# Altium integrated library Resistor - Current Sense.IntLib: 810 symbols (part 7 of 12)
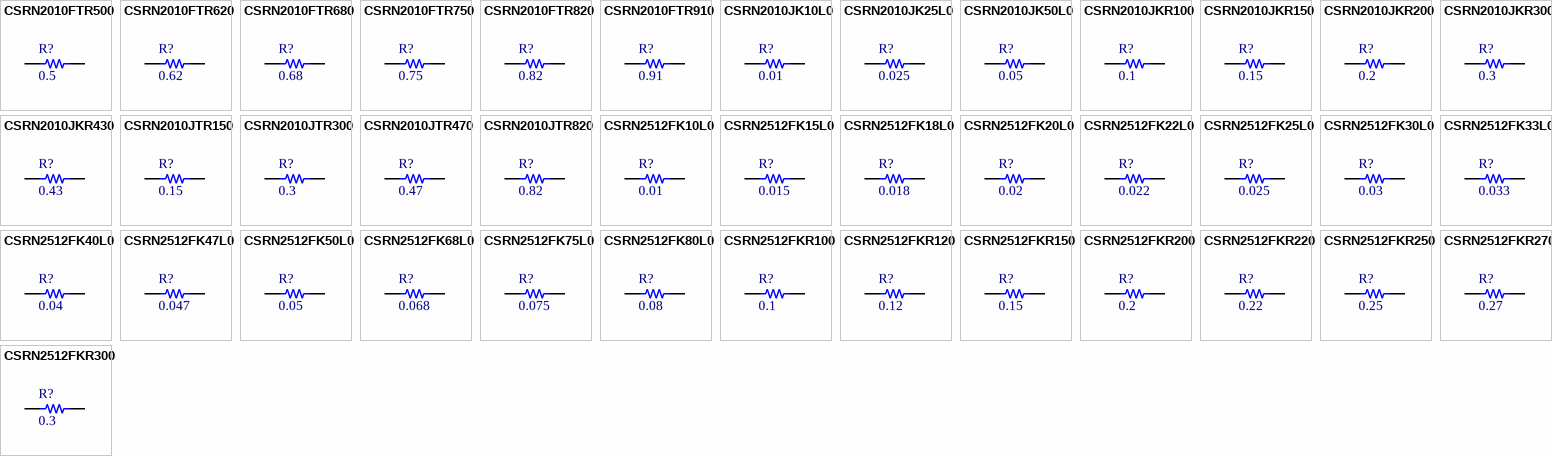
[diagram p26: symbols CSRN2010FTR500 to CSRN2512FKR300]

## CSRN2512FK50L0
designator R?, comment 0.05
RES SMD 0.05 OHM 1% 2W 2512; Part Number: CSRN2512FK50L0; Manufacturer: Stackpole Electronics Inc.; TemperatureRange: -55C ~ 155C; TemperatureCoefficient: 200ppm/C; Value: 0.05; PartId: 10173; Supplier 1: Digi-Key; Supplier Part Number 1: CSRN2512FK50L0TR-ND; ComponentLink1Description: Datasheet; ComponentLink1URL: http://www.seielect.com/catalog/SEI-CSR_CSRN.pdf; ComponentLink2Description: Digi-Key Listing; ComponentLink2URL: https://www.digikey.com/product-detail/en/stackpole-electronics-inc/CSRN2512FK50L0/CSRN2512FK50L0TR-ND/1646108; Tolerance: 1%; PowerRating: 2W; Price: 0.1388; Device Package: 2512 (6432 Metric)
footprint STACKPOLE CSRN2512
pins: 1, 2

## CSRN2512FK68L0
designator R?, comment 0.068
RES SMD 0.068 OHM 1% 2W 2512; Part Number: CSRN2512FK68L0; Manufacturer: Stackpole Electronics Inc.; TemperatureRange: -55C ~ 155C; TemperatureCoefficient: 200ppm/C; Value: 0.068; PartId: 10180; Supplier 1: Digi-Key; Supplier Part Number 1: CSRN2512FK68L0TR-ND; ComponentLink1Description: Datasheet; ComponentLink1URL: http://www.seielect.com/catalog/SEI-CSR_CSRN.pdf; ComponentLink2Description: Digi-Key Listing; ComponentLink2URL: https://www.digikey.com/product-detail/en/stackpole-electronics-inc/CSRN2512FK68L0/CSRN2512FK68L0TR-ND/1742736; Tolerance: 1%; PowerRating: 2W; Price: 0.1388; Device Package: 2512 (6432 Metric)
footprint STACKPOLE CSRN2512
pins: 1, 2

## CSRN2512FK75L0
designator R?, comment 0.075
RES SMD 0.075 OHM 1% 2W 2512; Part Number: CSRN2512FK75L0; Manufacturer: Stackpole Electronics Inc.; TemperatureRange: -55C ~ 155C; TemperatureCoefficient: 200ppm/C; Value: 0.075; PartId: 10182; Supplier 1: Digi-Key; Supplier Part Number 1: CSRN2512FK75L0TR-ND; ComponentLink1Description: Datasheet; ComponentLink1URL: http://www.seielect.com/catalog/SEI-CSR_CSRN.pdf; ComponentLink2Description: Digi-Key Listing; ComponentLink2URL: https://www.digikey.com/product-detail/en/stackpole-electronics-inc/CSRN2512FK75L0/CSRN2512FK75L0TR-ND/1646109; Tolerance: 1%; PowerRating: 2W; Price: 0.1388; Device Package: 2512 (6432 Metric)
footprint STACKPOLE CSRN2512
pins: 1, 2

## CSRN2512FK80L0
designator R?, comment 0.08
RES SMD 0.08 OHM 1% 2W 2512; Part Number: CSRN2512FK80L0; Manufacturer: Stackpole Electronics Inc.; TemperatureRange: -55C ~ 155C; TemperatureCoefficient: 200ppm/C; Value: 0.08; PartId: 10223; Supplier 1: Digi-Key; Supplier Part Number 1: CSRN2512FK80L0-ND; ComponentLink1Description: Datasheet; ComponentLink1URL: http://www.seielect.com/catalog/SEI-CSR_CSRN.pdf; ComponentLink2Description: Digi-Key Listing; ComponentLink2URL: https://www.digikey.com/product-detail/en/stackpole-electronics-inc/CSRN2512FK80L0/CSRN2512FK80L0-ND/1742739; Tolerance: 1%; PowerRating: 2W; Price: 0.1388; Device Package: 2512 (6432 Metric)
footprint STACKPOLE CSRN2512
pins: 1, 2

## CSRN2512FKR100
designator R?, comment 0.1
RES SMD 0.1 OHM 1% 2W 2512; Part Number: CSRN2512FKR100; Manufacturer: Stackpole Electronics Inc.; TemperatureRange: -55C ~ 155C; TemperatureCoefficient: 200ppm/C; Value: 0.1; PartId: 10172; Supplier 1: Digi-Key; Supplier Part Number 1: CSRN2512FKR100TR-ND; ComponentLink1Description: Datasheet; ComponentLink1URL: http://www.seielect.com/catalog/SEI-CSR_CSRN.pdf; ComponentLink2Description: Digi-Key Listing; ComponentLink2URL: https://www.digikey.com/product-detail/en/stackpole-electronics-inc/CSRN2512FKR100/CSRN2512FKR100TR-ND/1646110; Tolerance: 1%; PowerRating: 2W; Price: 0.126; Device Package: 2512 (6432 Metric)
footprint STACKPOLE CSRN2512
pins: 1, 2

## CSRN2512FKR120
designator R?, comment 0.12
RES SMD 0.12 OHM 1% 2W 2512; Part Number: CSRN2512FKR120; Manufacturer: Stackpole Electronics Inc.; TemperatureRange: -55C ~ 155C; TemperatureCoefficient: 200ppm/C; Value: 0.12; PartId: 10213; Supplier 1: Digi-Key; Supplier Part Number 1: CSRN2512FKR120-ND; ComponentLink1Description: Datasheet; ComponentLink1URL: http://www.seielect.com/catalog/SEI-CSR_CSRN.pdf; ComponentLink2Description: Digi-Key Listing; ComponentLink2URL: https://www.digikey.com/product-detail/en/stackpole-electronics-inc/CSRN2512FKR120/CSRN2512FKR120-ND/1742742; Tolerance: 1%; PowerRating: 2W; Price: 0.126; Device Package: 2512 (6432 Metric)
footprint STACKPOLE CSRN2512
pins: 1, 2

## CSRN2512FKR150
designator R?, comment 0.15
RES SMD 0.15 OHM 1% 2W 2512; Part Number: CSRN2512FKR150; Manufacturer: Stackpole Electronics Inc.; TemperatureRange: -55C ~ 155C; TemperatureCoefficient: 200ppm/C; Value: 0.15; PartId: 10167; Supplier 1: Digi-Key; Supplier Part Number 1: CSRN2512FKR150TR-ND; ComponentLink1Description: Datasheet; ComponentLink1URL: http://www.seielect.com/catalog/SEI-CSR_CSRN.pdf; ComponentLink2Description: Digi-Key Listing; ComponentLink2URL: https://www.digikey.com/product-detail/en/stackpole-electronics-inc/CSRN2512FKR150/CSRN2512FKR150TR-ND/1788109; Tolerance: 1%; PowerRating: 2W; Price: 0.126; Device Package: 2512 (6432 Metric)
footprint STACKPOLE CSRN2512
pins: 1, 2

## CSRN2512FKR200
designator R?, comment 0.2
RES SMD 0.2 OHM 1% 2W 2512; Part Number: CSRN2512FKR200; Manufacturer: Stackpole Electronics Inc.; TemperatureRange: -55C ~ 155C; TemperatureCoefficient: 200ppm/C; Value: 0.2; PartId: 10168; Supplier 1: Digi-Key; Supplier Part Number 1: CSRN2512FKR200TR-ND; ComponentLink1Description: Datasheet; ComponentLink1URL: http://www.seielect.com/catalog/SEI-CSR_CSRN.pdf; ComponentLink2Description: Digi-Key Listing; ComponentLink2URL: https://www.digikey.com/product-detail/en/stackpole-electronics-inc/CSRN2512FKR200/CSRN2512FKR200TR-ND/1742748; Tolerance: 1%; PowerRating: 2W; Price: 0.126; Device Package: 2512 (6432 Metric)
footprint STACKPOLE CSRN2512
pins: 1, 2

## CSRN2512FKR220
designator R?, comment 0.22
RES SMD 0.22 OHM 1% 2W 2512; Part Number: CSRN2512FKR220; Manufacturer: Stackpole Electronics Inc.; TemperatureRange: -55C ~ 155C; TemperatureCoefficient: 200ppm/C; Value: 0.22; PartId: 10214; Supplier 1: Digi-Key; Supplier Part Number 1: CSRN2512FKR220-ND; ComponentLink1Description: Datasheet; ComponentLink1URL: http://www.seielect.com/catalog/SEI-CSR_CSRN.pdf; ComponentLink2Description: Digi-Key Listing; ComponentLink2URL: https://www.digikey.com/product-detail/en/stackpole-electronics-inc/CSRN2512FKR220/CSRN2512FKR220-ND/1742750; Tolerance: 1%; PowerRating: 2W; Price: 0.126; Device Package: 2512 (6432 Metric)
footprint STACKPOLE CSRN2512
pins: 1, 2

## CSRN2512FKR250
designator R?, comment 0.25
RES SMD 0.25 OHM 1% 2W 2512; Part Number: CSRN2512FKR250; Manufacturer: Stackpole Electronics Inc.; TemperatureRange: -55C ~ 155C; TemperatureCoefficient: 200ppm/C; Value: 0.25; PartId: 10166; Supplier 1: Digi-Key; Supplier Part Number 1: CSRN2512FKR250TR-ND; ComponentLink1Description: Datasheet; ComponentLink1URL: http://www.seielect.com/catalog/SEI-CSR_CSRN.pdf; ComponentLink2Description: Digi-Key Listing; ComponentLink2URL: https://www.digikey.com/product-detail/en/stackpole-electronics-inc/CSRN2512FKR250/CSRN2512FKR250TR-ND/1788110; Tolerance: 1%; PowerRating: 2W; Price: 0.126; Device Package: 2512 (6432 Metric)
footprint STACKPOLE CSRN2512
pins: 1, 2

## CSRN2512FKR270
designator R?, comment 0.27
RES SMD 0.27 OHM 1% 2W 2512; Part Number: CSRN2512FKR270; Manufacturer: Stackpole Electronics Inc.; TemperatureRange: -55C ~ 155C; TemperatureCoefficient: 200ppm/C; Value: 0.27; PartId: 10215; Supplier 1: Digi-Key; Supplier Part Number 1: CSRN2512FKR270-ND; ComponentLink1Description: Datasheet; ComponentLink1URL: http://www.seielect.com/catalog/SEI-CSR_CSRN.pdf; ComponentLink2Description: Digi-Key Listing; ComponentLink2URL: https://www.digikey.com/product-detail/en/stackpole-electronics-inc/CSRN2512FKR270/CSRN2512FKR270-ND/1742752; Tolerance: 1%; PowerRating: 2W; Price: 0.126; Device Package: 2512 (6432 Metric)
footprint STACKPOLE CSRN2512
pins: 1, 2

## CSRN2512FKR300
designator R?, comment 0.3
RES SMD 0.3 OHM 1% 2W 2512; Part Number: CSRN2512FKR300; Manufacturer: Stackpole Electronics Inc.; TemperatureRange: -55C ~ 155C; TemperatureCoefficient: 200ppm/C; Value: 0.3; PartId: 10169; Supplier 1: Digi-Key; Supplier Part Number 1: CSRN2512FKR300TR-ND; ComponentLink1Description: Datasheet; ComponentLink1URL: http://www.seielect.com/catalog/SEI-CSR_CSRN.pdf; ComponentLink2Description: Digi-Key Listing; ComponentLink2URL: https://www.digikey.com/product-detail/en/stackpole-electronics-inc/CSRN2512FKR300/CSRN2512FKR300TR-ND/1742753; Tolerance: 1%; PowerRating: 2W; Price: 0.126; Device Package: 2512 (6432 Metric)
footprint STACKPOLE CSRN2512
pins: 1, 2

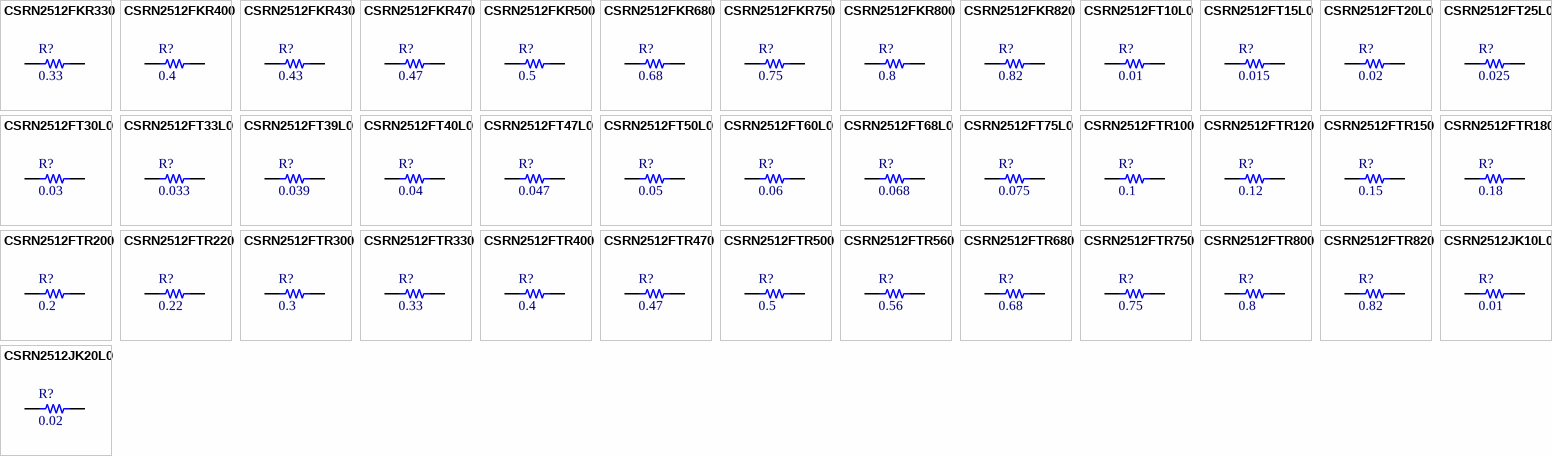
[diagram p11: symbols CSRN2512FKR330 to CSRN2512JK20L0]

## CSRN2512FKR330
designator R?, comment 0.33
RES SMD 0.33 OHM 1% 2W 2512; Part Number: CSRN2512FKR330; Manufacturer: Stackpole Electronics Inc.; TemperatureRange: -55C ~ 155C; TemperatureCoefficient: 200ppm/C; Value: 0.33; PartId: 10171; Supplier 1: Digi-Key; Supplier Part Number 1: CSRN2512FKR330TR-ND; ComponentLink1Description: Datasheet; ComponentLink1URL: http://www.seielect.com/catalog/SEI-CSR_CSRN.pdf; ComponentLink2Description: Digi-Key Listing; ComponentLink2URL: https://www.digikey.com/product-detail/en/stackpole-electronics-inc/CSRN2512FKR330/CSRN2512FKR330TR-ND/1742756; Tolerance: 1%; PowerRating: 2W; Price: 0.126; Device Package: 2512 (6432 Metric)
footprint STACKPOLE CSRN2512
pins: 1, 2

## CSRN2512FKR400
designator R?, comment 0.4
RES SMD 0.4 OHM 1% 2W 2512; Part Number: CSRN2512FKR400; Manufacturer: Stackpole Electronics Inc.; TemperatureRange: -55C ~ 155C; TemperatureCoefficient: 200ppm/C; Value: 0.4; PartId: 10179; Supplier 1: Digi-Key; Supplier Part Number 1: CSRN2512FKR400TR-ND; ComponentLink1Description: Datasheet; ComponentLink1URL: http://www.seielect.com/catalog/SEI-CSR_CSRN.pdf; ComponentLink2Description: Digi-Key Listing; ComponentLink2URL: https://www.digikey.com/product-detail/en/stackpole-electronics-inc/CSRN2512FKR400/CSRN2512FKR400TR-ND/1788111; Tolerance: 1%; PowerRating: 2W; Price: 0.126; Device Package: 2512 (6432 Metric)
footprint STACKPOLE CSRN2512
pins: 1, 2

## CSRN2512FKR430
designator R?, comment 0.43
RES SMD 0.43 OHM 1% 2W 2512; Part Number: CSRN2512FKR430; Manufacturer: Stackpole Electronics Inc.; TemperatureRange: -55C ~ 155C; TemperatureCoefficient: 200ppm/C; Value: 0.43; PartId: 10216; Supplier 1: Digi-Key; Supplier Part Number 1: CSRN2512FKR430-ND; ComponentLink1Description: Datasheet; ComponentLink1URL: http://www.seielect.com/catalog/SEI-CSR_CSRN.pdf; ComponentLink2Description: Digi-Key Listing; ComponentLink2URL: https://www.digikey.com/product-detail/en/stackpole-electronics-inc/CSRN2512FKR430/CSRN2512FKR430-ND/1742763; Tolerance: 1%; PowerRating: 2W; Price: 0.126; Device Package: 2512 (6432 Metric)
footprint STACKPOLE CSRN2512
pins: 1, 2

## CSRN2512FKR470
designator R?, comment 0.47
RES SMD 0.47 OHM 1% 2W 2512; Part Number: CSRN2512FKR470; Manufacturer: Stackpole Electronics Inc.; TemperatureRange: -55C ~ 155C; TemperatureCoefficient: 200ppm/C; Value: 0.47; PartId: 10170; Supplier 1: Digi-Key; Supplier Part Number 1: CSRN2512FKR470TR-ND; ComponentLink1Description: Datasheet; ComponentLink1URL: http://www.seielect.com/catalog/SEI-CSR_CSRN.pdf; ComponentLink2Description: Digi-Key Listing; ComponentLink2URL: https://www.digikey.com/product-detail/en/stackpole-electronics-inc/CSRN2512FKR470/CSRN2512FKR470TR-ND/1788112; Tolerance: 1%; PowerRating: 2W; Price: 0.126; Device Package: 2512 (6432 Metric)
footprint STACKPOLE CSRN2512
pins: 1, 2

## CSRN2512FKR500
designator R?, comment 0.5
RES SMD 0.5 OHM 1% 2W 2512; Part Number: CSRN2512FKR500; Manufacturer: Stackpole Electronics Inc.; TemperatureRange: -55C ~ 155C; TemperatureCoefficient: 200ppm/C; Value: 0.5; PartId: 10163; Supplier 1: Digi-Key; Supplier Part Number 1: CSRN2512FKR500TR-ND; ComponentLink1Description: Datasheet; ComponentLink1URL: http://www.seielect.com/catalog/SEI-CSR_CSRN.pdf; ComponentLink2Description: Digi-Key Listing; ComponentLink2URL: https://www.digikey.com/product-detail/en/stackpole-electronics-inc/CSRN2512FKR500/CSRN2512FKR500TR-ND/1742768; Tolerance: 1%; PowerRating: 2W; Price: 0.088; Device Package: 2512 (6432 Metric)
footprint STACKPOLE CSRN2512
pins: 1, 2

## CSRN2512FKR680
designator R?, comment 0.68
RES SMD 0.68 OHM 1% 2W 2512; Part Number: CSRN2512FKR680; Manufacturer: Stackpole Electronics Inc.; TemperatureRange: -55C ~ 155C; TemperatureCoefficient: 200ppm/C; Value: 0.68; PartId: 10162; Supplier 1: Digi-Key; Supplier Part Number 1: CSRN2512FKR680TR-ND; ComponentLink1Description: Datasheet; ComponentLink1URL: http://www.seielect.com/catalog/SEI-CSR_CSRN.pdf; ComponentLink2Description: Digi-Key Listing; ComponentLink2URL: https://www.digikey.com/product-detail/en/stackpole-electronics-inc/CSRN2512FKR680/CSRN2512FKR680TR-ND/1788113; Tolerance: 1%; PowerRating: 2W; Price: 0.088; Device Package: 2512 (6432 Metric)
footprint STACKPOLE CSRN2512
pins: 1, 2

## CSRN2512FKR750
designator R?, comment 0.75
RES SMD 0.75 OHM 1% 2W 2512; Part Number: CSRN2512FKR750; Manufacturer: Stackpole Electronics Inc.; TemperatureRange: -55C ~ 155C; TemperatureCoefficient: 200ppm/C; Value: 0.75; PartId: 10164; Supplier 1: Digi-Key; Supplier Part Number 1: CSRN2512FKR750TR-ND; ComponentLink1Description: Datasheet; ComponentLink1URL: http://www.seielect.com/catalog/SEI-CSR_CSRN.pdf; ComponentLink2Description: Digi-Key Listing; ComponentLink2URL: https://www.digikey.com/product-detail/en/stackpole-electronics-inc/CSRN2512FKR750/CSRN2512FKR750TR-ND/1788114; Tolerance: 1%; PowerRating: 2W; Price: 0.088; Device Package: 2512 (6432 Metric)
footprint STACKPOLE CSRN2512
pins: 1, 2

## CSRN2512FKR800
designator R?, comment 0.8
RES SMD 0.8 OHM 1% 2W 2512; Part Number: CSRN2512FKR800; Manufacturer: Stackpole Electronics Inc.; TemperatureRange: -55C ~ 155C; TemperatureCoefficient: 200ppm/C; Value: 0.8; PartId: 10189; Supplier 1: Digi-Key; Supplier Part Number 1: CSRN2512FKR800-ND; ComponentLink1Description: Datasheet; ComponentLink1URL: http://www.seielect.com/catalog/SEI-CSR_CSRN.pdf; ComponentLink2Description: Digi-Key Listing; ComponentLink2URL: https://www.digikey.com/product-detail/en/stackpole-electronics-inc/CSRN2512FKR800/CSRN2512FKR800-ND/1742773; Tolerance: 1%; PowerRating: 2W; Price: 0.088; Device Package: 2512 (6432 Metric)
footprint STACKPOLE CSRN2512
pins: 1, 2

## CSRN2512FKR820
designator R?, comment 0.82
RES SMD 0.82 OHM 1% 2W 2512; Part Number: CSRN2512FKR820; Manufacturer: Stackpole Electronics Inc.; TemperatureRange: -55C ~ 155C; TemperatureCoefficient: 200ppm/C; Value: 0.82; PartId: 10190; Supplier 1: Digi-Key; Supplier Part Number 1: CSRN2512FKR820-ND; ComponentLink1Description: Datasheet; ComponentLink1URL: http://www.seielect.com/catalog/SEI-CSR_CSRN.pdf; ComponentLink2Description: Digi-Key Listing; ComponentLink2URL: https://www.digikey.com/product-detail/en/stackpole-electronics-inc/CSRN2512FKR820/CSRN2512FKR820-ND/1742775; Tolerance: 1%; PowerRating: 2W; Price: 0.088; Device Package: 2512 (6432 Metric)
footprint STACKPOLE CSRN2512
pins: 1, 2

## CSRN2512FT10L0
designator R?, comment 0.01
RES SMD 0.01 OHM 1% 2W 2512; Part Number: CSRN2512FT10L0; Manufacturer: Stackpole Electronics Inc.; TemperatureRange: -55C ~ 155C; TemperatureCoefficient: 200ppm/C; Value: 0.01; PartId: 10234; Supplier 1: Digi-Key; Supplier Part Number 1: CSRN2512FT10L0-ND; ComponentLink1Description: Datasheet; ComponentLink1URL: http://www.seielect.com/catalog/SEI-CSR_CSRN.pdf; ComponentLink2Description: Digi-Key Listing; ComponentLink2URL: https://www.digikey.com/product-detail/en/stackpole-electronics-inc/CSRN2512FT10L0/CSRN2512FT10L0-ND/1742711; Tolerance: 1%; PowerRating: 2W; Price: 0.1862; Device Package: 2512 (6432 Metric)
footprint STACKPOLE CSRN2512
pins: 1, 2

## CSRN2512FT15L0
designator R?, comment 0.015
RES SMD 0.015 OHM 1% 2W 2512; Part Number: CSRN2512FT15L0; Manufacturer: Stackpole Electronics Inc.; TemperatureRange: -55C ~ 155C; TemperatureCoefficient: 200ppm/C; Value: 0.015; PartId: 10235; Supplier 1: Digi-Key; Supplier Part Number 1: CSRN2512FT15L0-ND; ComponentLink1Description: Datasheet; ComponentLink1URL: http://www.seielect.com/catalog/SEI-CSR_CSRN.pdf; ComponentLink2Description: Digi-Key Listing; ComponentLink2URL: https://www.digikey.com/product-detail/en/stackpole-electronics-inc/CSRN2512FT15L0/CSRN2512FT15L0-ND/1742715; Tolerance: 1%; PowerRating: 2W; Price: 0.1862; Device Package: 2512 (6432 Metric)
footprint STACKPOLE CSRN2512
pins: 1, 2

## CSRN2512FT20L0
designator R?, comment 0.02
RES SMD 0.02 OHM 1% 2W 2512; Part Number: CSRN2512FT20L0; Manufacturer: Stackpole Electronics Inc.; TemperatureRange: -55C ~ 155C; TemperatureCoefficient: 200ppm/C; Value: 0.02; PartId: 10236; Supplier 1: Digi-Key; Supplier Part Number 1: CSRN2512FT20L0-ND; ComponentLink1Description: Datasheet; ComponentLink1URL: http://www.seielect.com/catalog/SEI-CSR_CSRN.pdf; ComponentLink2Description: Digi-Key Listing; ComponentLink2URL: https://www.digikey.com/product-detail/en/stackpole-electronics-inc/CSRN2512FT20L0/CSRN2512FT20L0-ND/1742719; Tolerance: 1%; PowerRating: 2W; Price: 0.1862; Device Package: 2512 (6432 Metric)
footprint STACKPOLE CSRN2512
pins: 1, 2

## CSRN2512FT25L0
designator R?, comment 0.025
RES SMD 0.025 OHM 1% 2W 2512; Part Number: CSRN2512FT25L0; Manufacturer: Stackpole Electronics Inc.; TemperatureRange: -55C ~ 155C; TemperatureCoefficient: 200ppm/C; Value: 0.025; PartId: 10224; Supplier 1: Digi-Key; Supplier Part Number 1: CSRN2512FT25L0-ND; ComponentLink1Description: Datasheet; ComponentLink1URL: http://www.seielect.com/catalog/SEI-CSR_CSRN.pdf; ComponentLink2Description: Digi-Key Listing; ComponentLink2URL: https://www.digikey.com/product-detail/en/stackpole-electronics-inc/CSRN2512FT25L0/CSRN2512FT25L0-ND/1742722; Tolerance: 1%; PowerRating: 2W; Price: 0.1474; Device Package: 2512 (6432 Metric)
footprint STACKPOLE CSRN2512
pins: 1, 2

## CSRN2512FT30L0
designator R?, comment 0.03
RES SMD 0.03 OHM 1% 2W 2512; Part Number: CSRN2512FT30L0; Manufacturer: Stackpole Electronics Inc.; TemperatureRange: -55C ~ 155C; TemperatureCoefficient: 200ppm/C; Value: 0.03; PartId: 10225; Supplier 1: Digi-Key; Supplier Part Number 1: CSRN2512FT30L0-ND; ComponentLink1Description: Datasheet; ComponentLink1URL: http://www.seielect.com/catalog/SEI-CSR_CSRN.pdf; ComponentLink2Description: Digi-Key Listing; ComponentLink2URL: https://www.digikey.com/product-detail/en/stackpole-electronics-inc/CSRN2512FT30L0/CSRN2512FT30L0-ND/1742723; Tolerance: 1%; PowerRating: 2W; Price: 0.1474; Device Package: 2512 (6432 Metric)
footprint STACKPOLE CSRN2512
pins: 1, 2

## CSRN2512FT33L0
designator R?, comment 0.033
RES SMD 0.033 OHM 1% 2W 2512; Part Number: CSRN2512FT33L0; Manufacturer: Stackpole Electronics Inc.; TemperatureRange: -55C ~ 155C; TemperatureCoefficient: 200ppm/C; Value: 0.033; PartId: 10226; Supplier 1: Digi-Key; Supplier Part Number 1: CSRN2512FT33L0-ND; ComponentLink1Description: Datasheet; ComponentLink1URL: http://www.seielect.com/catalog/SEI-CSR_CSRN.pdf; ComponentLink2Description: Digi-Key Listing; ComponentLink2URL: https://www.digikey.com/product-detail/en/stackpole-electronics-inc/CSRN2512FT33L0/CSRN2512FT33L0-ND/1742725; Tolerance: 1%; PowerRating: 2W; Price: 0.1474; Device Package: 2512 (6432 Metric)
footprint STACKPOLE CSRN2512
pins: 1, 2

## CSRN2512FT39L0
designator R?, comment 0.039
RES SMD 0.039 OHM 1% 2W 2512; Part Number: CSRN2512FT39L0; Manufacturer: Stackpole Electronics Inc.; TemperatureRange: -55C ~ 155C; TemperatureCoefficient: 200ppm/C; Value: 0.039; PartId: 10227; Supplier 1: Digi-Key; Supplier Part Number 1: CSRN2512FT39L0-ND; ComponentLink1Description: Datasheet; ComponentLink1URL: http://www.seielect.com/catalog/SEI-CSR_CSRN.pdf; ComponentLink2Description: Digi-Key Listing; ComponentLink2URL: https://www.digikey.com/product-detail/en/stackpole-electronics-inc/CSRN2512FT39L0/CSRN2512FT39L0-ND/1742727; Tolerance: 1%; PowerRating: 2W; Price: 0.1474; Device Package: 2512 (6432 Metric)
footprint STACKPOLE CSRN2512
pins: 1, 2

## CSRN2512FT40L0
designator R?, comment 0.04
RES SMD 0.04 OHM 1% 2W 2512; Part Number: CSRN2512FT40L0; Manufacturer: Stackpole Electronics Inc.; TemperatureRange: -55C ~ 155C; TemperatureCoefficient: 200ppm/C; Value: 0.04; PartId: 10228; Supplier 1: Digi-Key; Supplier Part Number 1: CSRN2512FT40L0-ND; ComponentLink1Description: Datasheet; ComponentLink1URL: http://www.seielect.com/catalog/SEI-CSR_CSRN.pdf; ComponentLink2Description: Digi-Key Listing; ComponentLink2URL: https://www.digikey.com/product-detail/en/stackpole-electronics-inc/CSRN2512FT40L0/CSRN2512FT40L0-ND/1742729; Tolerance: 1%; PowerRating: 2W; Price: 0.1474; Device Package: 2512 (6432 Metric)
footprint STACKPOLE CSRN2512
pins: 1, 2

## CSRN2512FT47L0
designator R?, comment 0.047
RES SMD 0.047 OHM 1% 2W 2512; Part Number: CSRN2512FT47L0; Manufacturer: Stackpole Electronics Inc.; TemperatureRange: -55C ~ 155C; TemperatureCoefficient: 200ppm/C; Value: 0.047; PartId: 10229; Supplier 1: Digi-Key; Supplier Part Number 1: CSRN2512FT47L0-ND; ComponentLink1Description: Datasheet; ComponentLink1URL: http://www.seielect.com/catalog/SEI-CSR_CSRN.pdf; ComponentLink2Description: Digi-Key Listing; ComponentLink2URL: https://www.digikey.com/product-detail/en/stackpole-electronics-inc/CSRN2512FT47L0/CSRN2512FT47L0-ND/1742732; Tolerance: 1%; PowerRating: 2W; Price: 0.1474; Device Package: 2512 (6432 Metric)
footprint STACKPOLE CSRN2512
pins: 1, 2

## CSRN2512FT50L0
designator R?, comment 0.05
RES SMD 0.05 OHM 1% 2W 2512; Part Number: CSRN2512FT50L0; Manufacturer: Stackpole Electronics Inc.; TemperatureRange: -55C ~ 155C; TemperatureCoefficient: 200ppm/C; Value: 0.05; PartId: 10230; Supplier 1: Digi-Key; Supplier Part Number 1: CSRN2512FT50L0-ND; ComponentLink1Description: Datasheet; ComponentLink1URL: http://www.seielect.com/catalog/SEI-CSR_CSRN.pdf; ComponentLink2Description: Digi-Key Listing; ComponentLink2URL: https://www.digikey.com/product-detail/en/stackpole-electronics-inc/CSRN2512FT50L0/CSRN2512FT50L0-ND/1742733; Tolerance: 1%; PowerRating: 2W; Price: 0.1474; Device Package: 2512 (6432 Metric)
footprint STACKPOLE CSRN2512
pins: 1, 2

## CSRN2512FT60L0
designator R?, comment 0.06
RES SMD 0.06 OHM 1% 2W 2512; Part Number: CSRN2512FT60L0; Manufacturer: Stackpole Electronics Inc.; TemperatureRange: -55C ~ 155C; TemperatureCoefficient: 200ppm/C; Value: 0.06; PartId: 10218; Supplier 1: Digi-Key; Supplier Part Number 1: CSRN2512FT60L0-ND; ComponentLink1Description: Datasheet; ComponentLink1URL: http://www.seielect.com/catalog/SEI-CSR_CSRN.pdf; ComponentLink2Description: Digi-Key Listing; ComponentLink2URL: https://www.digikey.com/product-detail/en/stackpole-electronics-inc/CSRN2512FT60L0/CSRN2512FT60L0-ND/1742735; Tolerance: 1%; PowerRating: 2W; Price: 0.134; Device Package: 2512 (6432 Metric)
footprint STACKPOLE CSRN2512
pins: 1, 2

## CSRN2512FT68L0
designator R?, comment 0.068
RES SMD 0.068 OHM 1% 2W 2512; Part Number: CSRN2512FT68L0; Manufacturer: Stackpole Electronics Inc.; TemperatureRange: -55C ~ 155C; TemperatureCoefficient: 200ppm/C; Value: 0.068; PartId: 10219; Supplier 1: Digi-Key; Supplier Part Number 1: CSRN2512FT68L0-ND; ComponentLink1Description: Datasheet; ComponentLink1URL: http://www.seielect.com/catalog/SEI-CSR_CSRN.pdf; ComponentLink2Description: Digi-Key Listing; ComponentLink2URL: https://www.digikey.com/product-detail/en/stackpole-electronics-inc/CSRN2512FT68L0/CSRN2512FT68L0-ND/1742737; Tolerance: 1%; PowerRating: 2W; Price: 0.134; Device Package: 2512 (6432 Metric)
footprint STACKPOLE CSRN2512
pins: 1, 2

## CSRN2512FT75L0
designator R?, comment 0.075
RES SMD 0.075 OHM 1% 2W 2512; Part Number: CSRN2512FT75L0; Manufacturer: Stackpole Electronics Inc.; TemperatureRange: -55C ~ 155C; TemperatureCoefficient: 200ppm/C; Value: 0.075; PartId: 10220; Supplier 1: Digi-Key; Supplier Part Number 1: CSRN2512FT75L0-ND; ComponentLink1Description: Datasheet; ComponentLink1URL: http://www.seielect.com/catalog/SEI-CSR_CSRN.pdf; ComponentLink2Description: Digi-Key Listing; ComponentLink2URL: https://www.digikey.com/product-detail/en/stackpole-electronics-inc/CSRN2512FT75L0/CSRN2512FT75L0-ND/1742738; Tolerance: 1%; PowerRating: 2W; Price: 0.134; Device Package: 2512 (6432 Metric)
footprint STACKPOLE CSRN2512
pins: 1, 2

## CSRN2512FTR100
designator R?, comment 0.1
RES SMD 0.1 OHM 1% 2W 2512; Part Number: CSRN2512FTR100; Manufacturer: Stackpole Electronics Inc.; TemperatureRange: -55C ~ 155C; TemperatureCoefficient: 200ppm/C; Value: 0.1; PartId: 10165; Supplier 1: Digi-Key; Supplier Part Number 1: CSRN2512FTR100TR-ND; ComponentLink1Description: Datasheet; ComponentLink1URL: http://www.seielect.com/catalog/SEI-CSR_CSRN.pdf; ComponentLink2Description: Digi-Key Listing; ComponentLink2URL: https://www.digikey.com/product-detail/en/stackpole-electronics-inc/CSRN2512FTR100/CSRN2512FTR100TR-ND/1742740; Tolerance: 1%; PowerRating: 2W; Price: 0.108; Device Package: 2512 (6432 Metric)
footprint STACKPOLE CSRN2512
pins: 1, 2

## CSRN2512FTR120
designator R?, comment 0.12
RES SMD 0.12 OHM 1% 2W 2512; Part Number: CSRN2512FTR120; Manufacturer: Stackpole Electronics Inc.; TemperatureRange: -55C ~ 155C; TemperatureCoefficient: 200ppm/C; Value: 0.12; PartId: 10203; Supplier 1: Digi-Key; Supplier Part Number 1: CSRN2512FTR120-ND; ComponentLink1Description: Datasheet; ComponentLink1URL: http://www.seielect.com/catalog/SEI-CSR_CSRN.pdf; ComponentLink2Description: Digi-Key Listing; ComponentLink2URL: https://www.digikey.com/product-detail/en/stackpole-electronics-inc/CSRN2512FTR120/CSRN2512FTR120-ND/1742743; Tolerance: 1%; PowerRating: 2W; Price: 0.1215; Device Package: 2512 (6432 Metric)
footprint STACKPOLE CSRN2512
pins: 1, 2

## CSRN2512FTR150
designator R?, comment 0.15
RES SMD 0.15 OHM 1% 2W 2512; Part Number: CSRN2512FTR150; Manufacturer: Stackpole Electronics Inc.; TemperatureRange: -55C ~ 155C; TemperatureCoefficient: 200ppm/C; Value: 0.15; PartId: 10204; Supplier 1: Digi-Key; Supplier Part Number 1: CSRN2512FTR150-ND; ComponentLink1Description: Datasheet; ComponentLink1URL: http://www.seielect.com/catalog/SEI-CSR_CSRN.pdf; ComponentLink2Description: Digi-Key Listing; ComponentLink2URL: https://www.digikey.com/product-detail/en/stackpole-electronics-inc/CSRN2512FTR150/CSRN2512FTR150-ND/1742744; Tolerance: 1%; PowerRating: 2W; Price: 0.1215; Device Package: 2512 (6432 Metric)
footprint STACKPOLE CSRN2512
pins: 1, 2

## CSRN2512FTR180
designator R?, comment 0.18
RES SMD 0.18 OHM 1% 2W 2512; Part Number: CSRN2512FTR180; Manufacturer: Stackpole Electronics Inc.; TemperatureRange: -55C ~ 155C; TemperatureCoefficient: 200ppm/C; Value: 0.18; PartId: 10205; Supplier 1: Digi-Key; Supplier Part Number 1: CSRN2512FTR180-ND; ComponentLink1Description: Datasheet; ComponentLink1URL: http://www.seielect.com/catalog/SEI-CSR_CSRN.pdf; ComponentLink2Description: Digi-Key Listing; ComponentLink2URL: https://www.digikey.com/product-detail/en/stackpole-electronics-inc/CSRN2512FTR180/CSRN2512FTR180-ND/1742747; Tolerance: 1%; PowerRating: 2W; Price: 0.1215; Device Package: 2512 (6432 Metric)
footprint STACKPOLE CSRN2512
pins: 1, 2

## CSRN2512FTR200
designator R?, comment 0.2
RES SMD 0.2 OHM 1% 2W 2512; Part Number: CSRN2512FTR200; Manufacturer: Stackpole Electronics Inc.; TemperatureRange: -55C ~ 155C; TemperatureCoefficient: 200ppm/C; Value: 0.2; PartId: 10206; Supplier 1: Digi-Key; Supplier Part Number 1: CSRN2512FTR200-ND; ComponentLink1Description: Datasheet; ComponentLink1URL: http://www.seielect.com/catalog/SEI-CSR_CSRN.pdf; ComponentLink2Description: Digi-Key Listing; ComponentLink2URL: https://www.digikey.com/product-detail/en/stackpole-electronics-inc/CSRN2512FTR200/CSRN2512FTR200-ND/1742749; Tolerance: 1%; PowerRating: 2W; Price: 0.1215; Device Package: 2512 (6432 Metric)
footprint STACKPOLE CSRN2512
pins: 1, 2

## CSRN2512FTR220
designator R?, comment 0.22
RES SMD 0.22 OHM 1% 2W 2512; Part Number: CSRN2512FTR220; Manufacturer: Stackpole Electronics Inc.; TemperatureRange: -55C ~ 155C; TemperatureCoefficient: 200ppm/C; Value: 0.22; PartId: 10207; Supplier 1: Digi-Key; Supplier Part Number 1: CSRN2512FTR220-ND; ComponentLink1Description: Datasheet; ComponentLink1URL: http://www.seielect.com/catalog/SEI-CSR_CSRN.pdf; ComponentLink2Description: Digi-Key Listing; ComponentLink2URL: https://www.digikey.com/product-detail/en/stackpole-electronics-inc/CSRN2512FTR220/CSRN2512FTR220-ND/1742751; Tolerance: 1%; PowerRating: 2W; Price: 0.1215; Device Package: 2512 (6432 Metric)
footprint STACKPOLE CSRN2512
pins: 1, 2

## CSRN2512FTR300
designator R?, comment 0.3
RES SMD 0.3 OHM 1% 2W 2512; Part Number: CSRN2512FTR300; Manufacturer: Stackpole Electronics Inc.; TemperatureRange: -55C ~ 155C; TemperatureCoefficient: 200ppm/C; Value: 0.3; PartId: 10208; Supplier 1: Digi-Key; Supplier Part Number 1: CSRN2512FTR300-ND; ComponentLink1Description: Datasheet; ComponentLink1URL: http://www.seielect.com/catalog/SEI-CSR_CSRN.pdf; ComponentLink2Description: Digi-Key Listing; ComponentLink2URL: https://www.digikey.com/product-detail/en/stackpole-electronics-inc/CSRN2512FTR300/CSRN2512FTR300-ND/1742754; Tolerance: 1%; PowerRating: 2W; Price: 0.1215; Device Package: 2512 (6432 Metric)
footprint STACKPOLE CSRN2512
pins: 1, 2

## CSRN2512FTR330
designator R?, comment 0.33
RES SMD 0.33 OHM 1% 2W 2512; Part Number: CSRN2512FTR330; Manufacturer: Stackpole Electronics Inc.; TemperatureRange: -55C ~ 155C; TemperatureCoefficient: 200ppm/C; Value: 0.33; PartId: 10209; Supplier 1: Digi-Key; Supplier Part Number 1: CSRN2512FTR330-ND; ComponentLink1Description: Datasheet; ComponentLink1URL: http://www.seielect.com/catalog/SEI-CSR_CSRN.pdf; ComponentLink2Description: Digi-Key Listing; ComponentLink2URL: https://www.digikey.com/product-detail/en/stackpole-electronics-inc/CSRN2512FTR330/CSRN2512FTR330-ND/1742757; Tolerance: 1%; PowerRating: 2W; Price: 0.1215; Device Package: 2512 (6432 Metric)
footprint STACKPOLE CSRN2512
pins: 1, 2

## CSRN2512FTR400
designator R?, comment 0.4
RES SMD 0.4 OHM 1% 2W 2512; Part Number: CSRN2512FTR400; Manufacturer: Stackpole Electronics Inc.; TemperatureRange: -55C ~ 155C; TemperatureCoefficient: 200ppm/C; Value: 0.4; PartId: 10210; Supplier 1: Digi-Key; Supplier Part Number 1: CSRN2512FTR400-ND; ComponentLink1Description: Datasheet; ComponentLink1URL: http://www.seielect.com/catalog/SEI-CSR_CSRN.pdf; ComponentLink2Description: Digi-Key Listing; ComponentLink2URL: https://www.digikey.com/product-detail/en/stackpole-electronics-inc/CSRN2512FTR400/CSRN2512FTR400-ND/1742760; Tolerance: 1%; PowerRating: 2W; Price: 0.1215; Device Package: 2512 (6432 Metric)
footprint STACKPOLE CSRN2512
pins: 1, 2

## CSRN2512FTR470
designator R?, comment 0.47
RES SMD 0.47 OHM 1% 2W 2512; Part Number: CSRN2512FTR470; Manufacturer: Stackpole Electronics Inc.; TemperatureRange: -55C ~ 155C; TemperatureCoefficient: 200ppm/C; Value: 0.47; PartId: 10211; Supplier 1: Digi-Key; Supplier Part Number 1: CSRN2512FTR470-ND; ComponentLink1Description: Datasheet; ComponentLink1URL: http://www.seielect.com/catalog/SEI-CSR_CSRN.pdf; ComponentLink2Description: Digi-Key Listing; ComponentLink2URL: https://www.digikey.com/product-detail/en/stackpole-electronics-inc/CSRN2512FTR470/CSRN2512FTR470-ND/1742765; Tolerance: 1%; PowerRating: 2W; Price: 0.1215; Device Package: 2512 (6432 Metric)
footprint STACKPOLE CSRN2512
pins: 1, 2

## CSRN2512FTR500
designator R?, comment 0.5
RES SMD 0.5 OHM 1% 2W 2512; Part Number: CSRN2512FTR500; Manufacturer: Stackpole Electronics Inc.; TemperatureRange: -55C ~ 155C; TemperatureCoefficient: 200ppm/C; Value: 0.5; PartId: 10183; Supplier 1: Digi-Key; Supplier Part Number 1: CSRN2512FTR500-ND; ComponentLink1Description: Datasheet; ComponentLink1URL: http://www.seielect.com/catalog/SEI-CSR_CSRN.pdf; ComponentLink2Description: Digi-Key Listing; ComponentLink2URL: https://www.digikey.com/product-detail/en/stackpole-electronics-inc/CSRN2512FTR500/CSRN2512FTR500-ND/1742769; Tolerance: 1%; PowerRating: 2W; Price: 0.0825; Device Package: 2512 (6432 Metric)
footprint STACKPOLE CSRN2512
pins: 1, 2

## CSRN2512FTR560
designator R?, comment 0.56
RES SMD 0.56 OHM 1% 2W 2512; Part Number: CSRN2512FTR560; Manufacturer: Stackpole Electronics Inc.; TemperatureRange: -55C ~ 155C; TemperatureCoefficient: 200ppm/C; Value: 0.56; PartId: 10184; Supplier 1: Digi-Key; Supplier Part Number 1: CSRN2512FTR560-ND; ComponentLink1Description: Datasheet; ComponentLink1URL: http://www.seielect.com/catalog/SEI-CSR_CSRN.pdf; ComponentLink2Description: Digi-Key Listing; ComponentLink2URL: https://www.digikey.com/product-detail/en/stackpole-electronics-inc/CSRN2512FTR560/CSRN2512FTR560-ND/1742770; Tolerance: 1%; PowerRating: 2W; Price: 0.0825; Device Package: 2512 (6432 Metric)
footprint STACKPOLE CSRN2512
pins: 1, 2

## CSRN2512FTR680
designator R?, comment 0.68
RES SMD 0.68 OHM 1% 2W 2512; Part Number: CSRN2512FTR680; Manufacturer: Stackpole Electronics Inc.; TemperatureRange: -55C ~ 155C; TemperatureCoefficient: 200ppm/C; Value: 0.68; PartId: 10185; Supplier 1: Digi-Key; Supplier Part Number 1: CSRN2512FTR680-ND; ComponentLink1Description: Datasheet; ComponentLink1URL: http://www.seielect.com/catalog/SEI-CSR_CSRN.pdf; ComponentLink2Description: Digi-Key Listing; ComponentLink2URL: https://www.digikey.com/product-detail/en/stackpole-electronics-inc/CSRN2512FTR680/CSRN2512FTR680-ND/1742771; Tolerance: 1%; PowerRating: 2W; Price: 0.0825; Device Package: 2512 (6432 Metric)
footprint STACKPOLE CSRN2512
pins: 1, 2

## CSRN2512FTR750
designator R?, comment 0.75
RES SMD 0.75 OHM 1% 2W 2512; Part Number: CSRN2512FTR750; Manufacturer: Stackpole Electronics Inc.; TemperatureRange: -55C ~ 155C; TemperatureCoefficient: 200ppm/C; Value: 0.75; PartId: 10186; Supplier 1: Digi-Key; Supplier Part Number 1: CSRN2512FTR750-ND; ComponentLink1Description: Datasheet; ComponentLink1URL: http://www.seielect.com/catalog/SEI-CSR_CSRN.pdf; ComponentLink2Description: Digi-Key Listing; ComponentLink2URL: https://www.digikey.com/product-detail/en/stackpole-electronics-inc/CSRN2512FTR750/CSRN2512FTR750-ND/1742772; Tolerance: 1%; PowerRating: 2W; Price: 0.0825; Device Package: 2512 (6432 Metric)
footprint STACKPOLE CSRN2512
pins: 1, 2

## CSRN2512FTR800
designator R?, comment 0.8
RES SMD 0.8 OHM 1% 2W 2512; Part Number: CSRN2512FTR800; Manufacturer: Stackpole Electronics Inc.; TemperatureRange: -55C ~ 155C; TemperatureCoefficient: 200ppm/C; Value: 0.8; PartId: 10187; Supplier 1: Digi-Key; Supplier Part Number 1: CSRN2512FTR800-ND; ComponentLink1Description: Datasheet; ComponentLink1URL: http://www.seielect.com/catalog/SEI-CSR_CSRN.pdf; ComponentLink2Description: Digi-Key Listing; ComponentLink2URL: https://www.digikey.com/product-detail/en/stackpole-electronics-inc/CSRN2512FTR800/CSRN2512FTR800-ND/1742774; Tolerance: 1%; PowerRating: 2W; Price: 0.0825; Device Package: 2512 (6432 Metric)
footprint STACKPOLE CSRN2512
pins: 1, 2

## CSRN2512FTR820
designator R?, comment 0.82
RES SMD 0.82 OHM 1% 2W 2512; Part Number: CSRN2512FTR820; Manufacturer: Stackpole Electronics Inc.; TemperatureRange: -55C ~ 155C; TemperatureCoefficient: 200ppm/C; Value: 0.82; PartId: 10188; Supplier 1: Digi-Key; Supplier Part Number 1: CSRN2512FTR820-ND; ComponentLink1Description: Datasheet; ComponentLink1URL: http://www.seielect.com/catalog/SEI-CSR_CSRN.pdf; ComponentLink2Description: Digi-Key Listing; ComponentLink2URL: https://www.digikey.com/product-detail/en/stackpole-electronics-inc/CSRN2512FTR820/CSRN2512FTR820-ND/1742776; Tolerance: 1%; PowerRating: 2W; Price: 0.0825; Device Package: 2512 (6432 Metric)
footprint STACKPOLE CSRN2512
pins: 1, 2

## CSRN2512JK10L0
designator R?, comment 0.01
RES SMD 0.01 OHM 5% 2W 2512; Part Number: CSRN2512JK10L0; Manufacturer: Stackpole Electronics Inc.; TemperatureRange: -55C ~ 155C; TemperatureCoefficient: 200ppm/C; Value: 0.01; PartId: 10221; Supplier 1: Digi-Key; Supplier Part Number 1: CSRN2512JK10L0-ND; ComponentLink1Description: Datasheet; ComponentLink1URL: http://www.seielect.com/catalog/SEI-CSR_CSRN.pdf; ComponentLink2Description: Digi-Key Listing; ComponentLink2URL: https://www.digikey.com/product-detail/en/stackpole-electronics-inc/CSRN2512JK10L0/CSRN2512JK10L0-ND/1742712; Tolerance: 5%; PowerRating: 2W; Price: 0.1388; Device Package: 2512 (6432 Metric)
footprint STACKPOLE CSRN2512
pins: 1, 2

## CSRN2512JK20L0
designator R?, comment 0.02
RES SMD 0.02 OHM 5% 2W 2512; Part Number: CSRN2512JK20L0; Manufacturer: Stackpole Electronics Inc.; TemperatureRange: -55C ~ 155C; TemperatureCoefficient: 200ppm/C; Value: 0.02; PartId: 10222; Supplier 1: Digi-Key; Supplier Part Number 1: CSRN2512JK20L0-ND; ComponentLink1Description: Datasheet; ComponentLink1URL: http://www.seielect.com/catalog/SEI-CSR_CSRN.pdf; ComponentLink2Description: Digi-Key Listing; ComponentLink2URL: https://www.digikey.com/product-detail/en/stackpole-electronics-inc/CSRN2512JK20L0/CSRN2512JK20L0-ND/1742720; Tolerance: 5%; PowerRating: 2W; Price: 0.1388; Device Package: 2512 (6432 Metric)
footprint STACKPOLE CSRN2512
pins: 1, 2

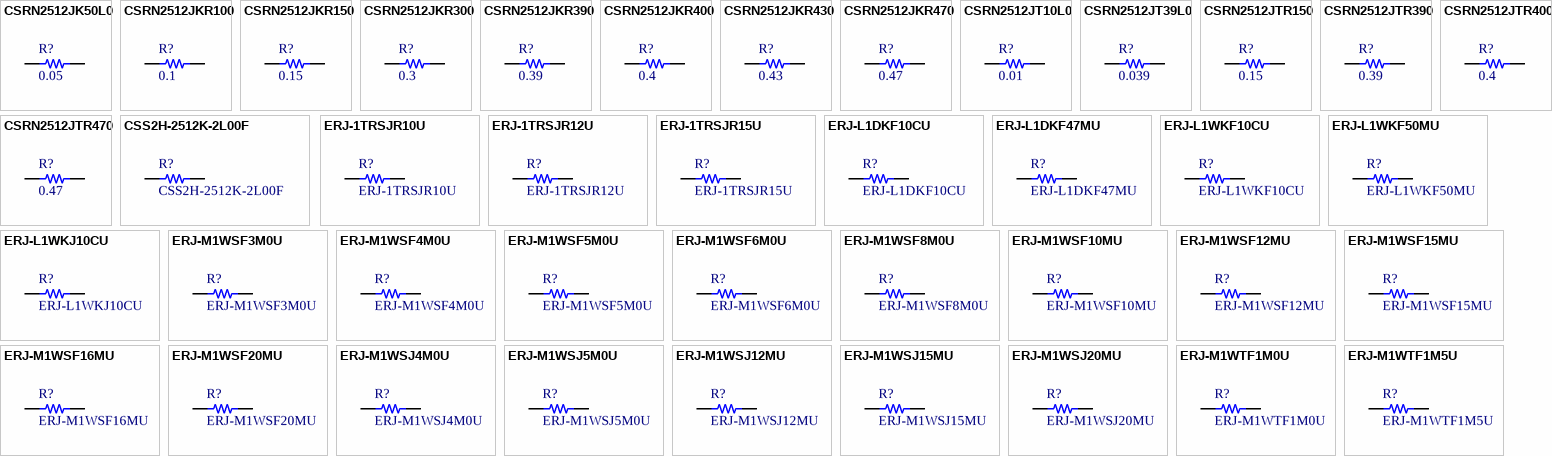
[diagram p12: symbols CSRN2512JK50L0 to ERJ-M1WTF1M5U]

## CSRN2512JK50L0
designator R?, comment 0.05
RES SMD 0.05 OHM 5% 2W 2512; Part Number: CSRN2512JK50L0; Manufacturer: Stackpole Electronics Inc.; TemperatureRange: -55C ~ 155C; TemperatureCoefficient: 200ppm/C; Value: 0.05; PartId: 10212; Supplier 1: Digi-Key; Supplier Part Number 1: CSRN2512JK50L0-ND; ComponentLink1Description: Datasheet; ComponentLink1URL: http://www.seielect.com/catalog/SEI-CSR_CSRN.pdf; ComponentLink2Description: Digi-Key Listing; ComponentLink2URL: https://www.digikey.com/product-detail/en/stackpole-electronics-inc/CSRN2512JK50L0/CSRN2512JK50L0-ND/1742734; Tolerance: 5%; PowerRating: 2W; Price: 0.126; Device Package: 2512 (6432 Metric)
footprint STACKPOLE CSRN2512
pins: 1, 2

## CSRN2512JKR100
designator R?, comment 0.1
RES SMD 0.1 OHM 5% 2W 2512; Part Number: CSRN2512JKR100; Manufacturer: Stackpole Electronics Inc.; TemperatureRange: -55C ~ 155C; TemperatureCoefficient: 200ppm/C; Value: 0.1; PartId: 10201; Supplier 1: Digi-Key; Supplier Part Number 1: CSRN2512JKR100-ND; ComponentLink1Description: Datasheet; ComponentLink1URL: http://www.seielect.com/catalog/SEI-CSR_CSRN.pdf; ComponentLink2Description: Digi-Key Listing; ComponentLink2URL: https://www.digikey.com/product-detail/en/stackpole-electronics-inc/CSRN2512JKR100/CSRN2512JKR100-ND/1742741; Tolerance: 5%; PowerRating: 2W; Price: 0.112; Device Package: 2512 (6432 Metric)
footprint STACKPOLE CSRN2512
pins: 1, 2

## CSRN2512JKR150
designator R?, comment 0.15
RES SMD 0.15 OHM 5% 2W 2512; Part Number: CSRN2512JKR150; Manufacturer: Stackpole Electronics Inc.; TemperatureRange: -55C ~ 155C; TemperatureCoefficient: 200ppm/C; Value: 0.15; PartId: 10195; Supplier 1: Digi-Key; Supplier Part Number 1: CSRN2512JKR150-ND; ComponentLink1Description: Datasheet; ComponentLink1URL: http://www.seielect.com/catalog/SEI-CSR_CSRN.pdf; ComponentLink2Description: Digi-Key Listing; ComponentLink2URL: https://www.digikey.com/product-detail/en/stackpole-electronics-inc/CSRN2512JKR150/CSRN2512JKR150-ND/1742745; Tolerance: 5%; PowerRating: 2W; Price: 0.098; Device Package: 2512 (6432 Metric)
footprint STACKPOLE CSRN2512
pins: 1, 2

## CSRN2512JKR300
designator R?, comment 0.3
RES SMD 0.3 OHM 5% 2W 2512; Part Number: CSRN2512JKR300; Manufacturer: Stackpole Electronics Inc.; TemperatureRange: -55C ~ 155C; TemperatureCoefficient: 200ppm/C; Value: 0.3; PartId: 10196; Supplier 1: Digi-Key; Supplier Part Number 1: CSRN2512JKR300-ND; ComponentLink1Description: Datasheet; ComponentLink1URL: http://www.seielect.com/catalog/SEI-CSR_CSRN.pdf; ComponentLink2Description: Digi-Key Listing; ComponentLink2URL: https://www.digikey.com/product-detail/en/stackpole-electronics-inc/CSRN2512JKR300/CSRN2512JKR300-ND/1742755; Tolerance: 5%; PowerRating: 2W; Price: 0.098; Device Package: 2512 (6432 Metric)
footprint STACKPOLE CSRN2512
pins: 1, 2

## CSRN2512JKR390
designator R?, comment 0.39
RES SMD 0.39 OHM 5% 2W 2512; Part Number: CSRN2512JKR390; Manufacturer: Stackpole Electronics Inc.; TemperatureRange: -55C ~ 155C; TemperatureCoefficient: 200ppm/C; Value: 0.39; PartId: 10197; Supplier 1: Digi-Key; Supplier Part Number 1: CSRN2512JKR390-ND; ComponentLink1Description: Datasheet; ComponentLink1URL: http://www.seielect.com/catalog/SEI-CSR_CSRN.pdf; ComponentLink2Description: Digi-Key Listing; ComponentLink2URL: https://www.digikey.com/product-detail/en/stackpole-electronics-inc/CSRN2512JKR390/CSRN2512JKR390-ND/1742758; Tolerance: 5%; PowerRating: 2W; Price: 0.098; Device Package: 2512 (6432 Metric)
footprint STACKPOLE CSRN2512
pins: 1, 2

## CSRN2512JKR400
designator R?, comment 0.4
RES SMD 0.4 OHM 5% 2W 2512; Part Number: CSRN2512JKR400; Manufacturer: Stackpole Electronics Inc.; TemperatureRange: -55C ~ 155C; TemperatureCoefficient: 200ppm/C; Value: 0.4; PartId: 10198; Supplier 1: Digi-Key; Supplier Part Number 1: CSRN2512JKR400-ND; ComponentLink1Description: Datasheet; ComponentLink1URL: http://www.seielect.com/catalog/SEI-CSR_CSRN.pdf; ComponentLink2Description: Digi-Key Listing; ComponentLink2URL: https://www.digikey.com/product-detail/en/stackpole-electronics-inc/CSRN2512JKR400/CSRN2512JKR400-ND/1742761; Tolerance: 5%; PowerRating: 2W; Price: 0.098; Device Package: 2512 (6432 Metric)
footprint STACKPOLE CSRN2512
pins: 1, 2

## CSRN2512JKR430
designator R?, comment 0.43
RES SMD 0.43 OHM 5% 2W 2512; Part Number: CSRN2512JKR430; Manufacturer: Stackpole Electronics Inc.; TemperatureRange: -55C ~ 155C; TemperatureCoefficient: 200ppm/C; Value: 0.43; PartId: 10199; Supplier 1: Digi-Key; Supplier Part Number 1: CSRN2512JKR430-ND; ComponentLink1Description: Datasheet; ComponentLink1URL: http://www.seielect.com/catalog/SEI-CSR_CSRN.pdf; ComponentLink2Description: Digi-Key Listing; ComponentLink2URL: https://www.digikey.com/product-detail/en/stackpole-electronics-inc/CSRN2512JKR430/CSRN2512JKR430-ND/1742764; Tolerance: 5%; PowerRating: 2W; Price: 0.098; Device Package: 2512 (6432 Metric)
footprint STACKPOLE CSRN2512
pins: 1, 2

## CSRN2512JKR470
designator R?, comment 0.47
RES SMD 0.47 OHM 5% 2W 2512; Part Number: CSRN2512JKR470; Manufacturer: Stackpole Electronics Inc.; TemperatureRange: -55C ~ 155C; TemperatureCoefficient: 200ppm/C; Value: 0.47; PartId: 10200; Supplier 1: Digi-Key; Supplier Part Number 1: CSRN2512JKR470-ND; ComponentLink1Description: Datasheet; ComponentLink1URL: http://www.seielect.com/catalog/SEI-CSR_CSRN.pdf; ComponentLink2Description: Digi-Key Listing; ComponentLink2URL: https://www.digikey.com/product-detail/en/stackpole-electronics-inc/CSRN2512JKR470/CSRN2512JKR470-ND/1742766; Tolerance: 5%; PowerRating: 2W; Price: 0.098; Device Package: 2512 (6432 Metric)
footprint STACKPOLE CSRN2512
pins: 1, 2

## CSRN2512JT10L0
designator R?, comment 0.01
RES SMD 0.01 OHM 5% 2W 2512; Part Number: CSRN2512JT10L0; Manufacturer: Stackpole Electronics Inc.; TemperatureRange: -55C ~ 155C; TemperatureCoefficient: 200ppm/C; Value: 0.01; PartId: 10217; Supplier 1: Digi-Key; Supplier Part Number 1: CSRN2512JT10L0-ND; ComponentLink1Description: Datasheet; ComponentLink1URL: http://www.seielect.com/catalog/SEI-CSR_CSRN.pdf; ComponentLink2Description: Digi-Key Listing; ComponentLink2URL: https://www.digikey.com/product-detail/en/stackpole-electronics-inc/CSRN2512JT10L0/CSRN2512JT10L0-ND/1742713; Tolerance: 5%; PowerRating: 2W; Price: 0.134; Device Package: 2512 (6432 Metric)
footprint STACKPOLE CSRN2512
pins: 1, 2

## CSRN2512JT39L0
designator R?, comment 0.039
RES SMD 0.039 OHM 5% 2W 2512; Part Number: CSRN2512JT39L0; Manufacturer: Stackpole Electronics Inc.; TemperatureRange: -55C ~ 155C; TemperatureCoefficient: 200ppm/C; Value: 0.039; PartId: 10202; Supplier 1: Digi-Key; Supplier Part Number 1: CSRN2512JT39L0-ND; ComponentLink1Description: Datasheet; ComponentLink1URL: http://www.seielect.com/catalog/SEI-CSR_CSRN.pdf; ComponentLink2Description: Digi-Key Listing; ComponentLink2URL: https://www.digikey.com/product-detail/en/stackpole-electronics-inc/CSRN2512JT39L0/CSRN2512JT39L0-ND/1742728; Tolerance: 5%; PowerRating: 2W; Price: 0.1215; Device Package: 2512 (6432 Metric)
footprint STACKPOLE CSRN2512
pins: 1, 2

## CSRN2512JTR150
designator R?, comment 0.15
RES SMD 0.15 OHM 5% 2W 2512; Part Number: CSRN2512JTR150; Manufacturer: Stackpole Electronics Inc.; TemperatureRange: -55C ~ 155C; TemperatureCoefficient: 200ppm/C; Value: 0.15; PartId: 10191; Supplier 1: Digi-Key; Supplier Part Number 1: CSRN2512JTR150-ND; ComponentLink1Description: Datasheet; ComponentLink1URL: http://www.seielect.com/catalog/SEI-CSR_CSRN.pdf; ComponentLink2Description: Digi-Key Listing; ComponentLink2URL: https://www.digikey.com/product-detail/en/stackpole-electronics-inc/CSRN2512JTR150/CSRN2512JTR150-ND/1742746; Tolerance: 5%; PowerRating: 2W; Price: 0.0945; Device Package: 2512 (6432 Metric)
footprint STACKPOLE CSRN2512
pins: 1, 2

## CSRN2512JTR390
designator R?, comment 0.39
RES SMD 0.39 OHM 5% 2W 2512; Part Number: CSRN2512JTR390; Manufacturer: Stackpole Electronics Inc.; TemperatureRange: -55C ~ 155C; TemperatureCoefficient: 200ppm/C; Value: 0.39; PartId: 10192; Supplier 1: Digi-Key; Supplier Part Number 1: CSRN2512JTR390-ND; ComponentLink1Description: Datasheet; ComponentLink1URL: http://www.seielect.com/catalog/SEI-CSR_CSRN.pdf; ComponentLink2Description: Digi-Key Listing; ComponentLink2URL: https://www.digikey.com/product-detail/en/stackpole-electronics-inc/CSRN2512JTR390/CSRN2512JTR390-ND/1742759; Tolerance: 5%; PowerRating: 2W; Price: 0.0945; Device Package: 2512 (6432 Metric)
footprint STACKPOLE CSRN2512
pins: 1, 2

## CSRN2512JTR400
designator R?, comment 0.4
RES SMD 0.4 OHM 5% 2W 2512; Part Number: CSRN2512JTR400; Manufacturer: Stackpole Electronics Inc.; TemperatureRange: -55C ~ 155C; TemperatureCoefficient: 200ppm/C; Value: 0.4; PartId: 10193; Supplier 1: Digi-Key; Supplier Part Number 1: CSRN2512JTR400-ND; ComponentLink1Description: Datasheet; ComponentLink1URL: http://www.seielect.com/catalog/SEI-CSR_CSRN.pdf; ComponentLink2Description: Digi-Key Listing; ComponentLink2URL: https://www.digikey.com/product-detail/en/stackpole-electronics-inc/CSRN2512JTR400/CSRN2512JTR400-ND/1742762; Tolerance: 5%; PowerRating: 2W; Price: 0.0945; Device Package: 2512 (6432 Metric)
footprint STACKPOLE CSRN2512
pins: 1, 2

## CSRN2512JTR470
designator R?, comment 0.47
RES SMD 0.47 OHM 5% 2W 2512; Part Number: CSRN2512JTR470; Manufacturer: Stackpole Electronics Inc.; TemperatureRange: -55C ~ 155C; TemperatureCoefficient: 200ppm/C; Value: 0.47; PartId: 10194; Supplier 1: Digi-Key; Supplier Part Number 1: CSRN2512JTR470-ND; ComponentLink1Description: Datasheet; ComponentLink1URL: http://www.seielect.com/catalog/SEI-CSR_CSRN.pdf; ComponentLink2Description: Digi-Key Listing; ComponentLink2URL: https://www.digikey.com/product-detail/en/stackpole-electronics-inc/CSRN2512JTR470/CSRN2512JTR470-ND/1742767; Tolerance: 5%; PowerRating: 2W; Price: 0.0945; Device Package: 2512 (6432 Metric)
footprint STACKPOLE CSRN2512
pins: 1, 2

## CSS2H-2512K-2L00F
designator R?
RES SMD 0.002 OHM 1% 5W 2512; Manufacturer: Bourns Inc.; Value: 0.002; TemperatureRange: -55C ~ 170C; TemperatureCoefficient: 50ppm/C; Part Number: CSS2H-2512K-2L00F; PartId: 21455; Supplier 1: Digi-Key; Supplier Part Number 1: CSS2H-2512K-2L00FTR-ND; ComponentLink1Description: Datasheet; ComponentLink1URL: http://www.bourns.com/docs/Product-Datasheets/css2h-2512.pdf; ComponentLink2Description: Digi-Key Listing; ComponentLink2URL: https://www.digikey.com/product-detail/en/bourns-inc/CSS2H-2512K-2L00F/CSS2H-2512K-2L00FTR-ND/6023752; Tolerance: 1%; PowerRating: 5W; Price: 0.325; Device Package: 2512 (6432 Metric)
footprint STACKPOLE CSR2512
pins: 1, 2

## ERJ-1TRSJR10U
designator R?
RES SMD 0.1 OHM 5% 1W 2512; Manufacturer: Panasonic Electronic Components; Value: 0.1; TemperatureRange: -55C ~ 125C; TemperatureCoefficient: 200ppm/C; Part Number: ERJ-1TRSJR10U; PartId: 21415; Supplier 1: Digi-Key; Supplier Part Number 1: PT.10UTR-ND; ComponentLink1Description: Datasheet; ComponentLink1URL: https://industrial.panasonic.com/cdbs/www-data/pdf/RDA0000/AOA0000C239.pdf; ComponentLink2Description: Digi-Key Listing; ComponentLink2URL: https://www.digikey.com/product-detail/en/panasonic-electronic-components/ERJ-1TRSJR10U/PT.10UTR-ND/365107; Tolerance: 5%; PowerRating: 1W; Price: 0.2128; Device Package: 2512 (6432 Metric)
footprint STACKPOLE CSR2512
pins: 1, 2

## ERJ-1TRSJR12U
designator R?
RES SMD 0.12 OHM 5% 1W 2512; Manufacturer: Panasonic Electronic Components; Value: 0.12; TemperatureRange: -55C ~ 125C; TemperatureCoefficient: 200ppm/C; Part Number: ERJ-1TRSJR12U; PartId: 21428; Supplier 1: Digi-Key; Supplier Part Number 1: PT.12UTR-ND; ComponentLink1Description: Datasheet; ComponentLink1URL: https://industrial.panasonic.com/cdbs/www-data/pdf/RDA0000/AOA0000C239.pdf; ComponentLink2Description: Digi-Key Listing; ComponentLink2URL: https://www.digikey.com/product-detail/en/panasonic-electronic-components/ERJ-1TRSJR12U/PT.12UTR-ND/365108; Tolerance: 5%; PowerRating: 1W; Price: 0.2367; Device Package: 2512 (6432 Metric)
footprint STACKPOLE CSR2512
pins: 1, 2

## ERJ-1TRSJR15U
designator R?
RES SMD 0.15 OHM 5% 1W 2512; Manufacturer: Panasonic Electronic Components; Value: 0.15; TemperatureRange: -55C ~ 125C; TemperatureCoefficient: 200ppm/C; Part Number: ERJ-1TRSJR15U; PartId: 21416; Supplier 1: Digi-Key; Supplier Part Number 1: PT.15UTR-ND; ComponentLink1Description: Datasheet; ComponentLink1URL: https://industrial.panasonic.com/cdbs/www-data/pdf/RDA0000/AOA0000C239.pdf; ComponentLink2Description: Digi-Key Listing; ComponentLink2URL: https://www.digikey.com/product-detail/en/panasonic-electronic-components/ERJ-1TRSJR15U/PT.15UTR-ND/365109; Tolerance: 5%; PowerRating: 1W; Price: 0.2128; Device Package: 2512 (6432 Metric)
footprint STACKPOLE CSR2512
pins: 1, 2